# EAGLE library part STK4241/2 (library Audio-Power-amplifier)
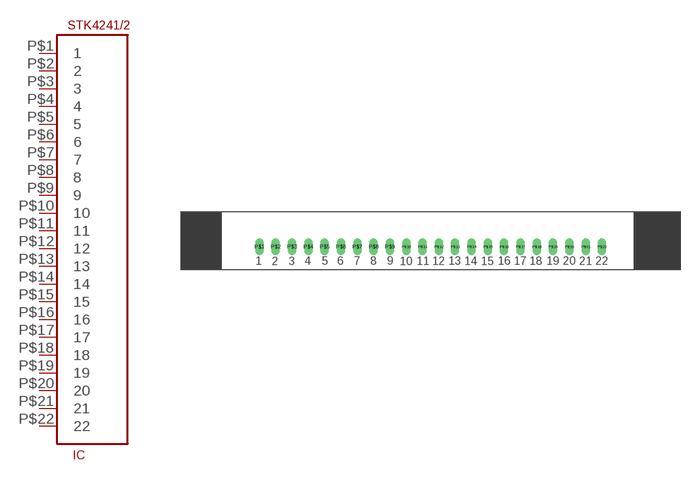
[diagram p31: symbol with the pads of STK4241/2; footprint STK4241/2]

Designator prefix IC

## STK4241/2  [STK4241/2]
P$1  1
P$2  2
P$3  3  in
P$4  4  in
P$5  5  pwr
P$6  6
P$7  7
P$8  8
P$9  9
P$10  10
P$11  11  pwr
P$12  12  out
P$13  13  pwr
P$14  14  pwr
P$15  15  out
P$16  16  pwr
P$17  17
P$18  18  pwr
P$19  19  in
P$20  20  in
P$21  21
P$22  22

## Footprint STK4241/2 (pad centres in mm)
drill 0.8 long: P$1 -26.67,-1; P$2 -24.13,-1; P$3 -21.59,-1; P$4 -19.05,-1; P$5 -16.51,-1; P$6 -13.97,-1; P$7 -11.43,-1; P$8 -8.89,-1; P$9 -6.35,-1; P$10 -3.81,-1; P$11 -1.27,-1; P$12 1.27,-1; P$13 3.81,-1; P$14 6.35,-1; P$15 8.89,-1; P$16 11.43,-1; P$17 13.97,-1; P$18 16.51,-1; P$19 19.05,-1; P$20 21.59,-1; P$21 24.13,-1; P$22 26.67,-1